# EAGLE library part OSTCXBC1C1S (library LED)
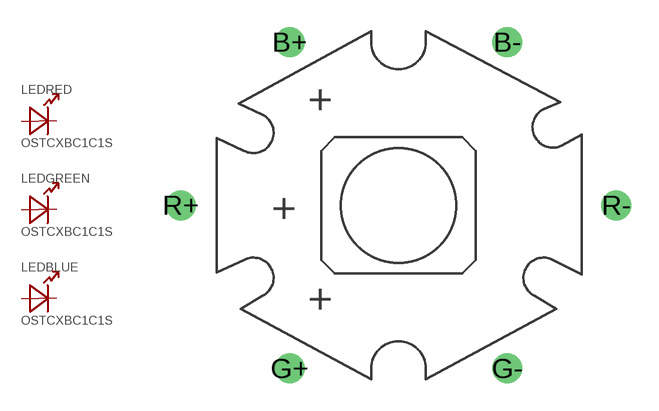
[diagram p0: symbol with the pads of OSTCXBC1C1S_WITH_HEATSINK; footprint OSTCXBC1C1S_WITH_HEATSINK]

Designator prefix LED; gates RED=LED GREEN=LED BLUE=LED

## OSTCXBC1C1S  [OSTCXBC1C1S_WITH_HEATSINK]
B+  BLUE:A  pas
B-  BLUE:C  pas
G+  GREEN:A  pas
G-  GREEN:C  pas
R+  RED:A  pas
R-  RED:C  pas

## Footprint OSTCXBC1C1S_WITH_HEATSINK (pad centres in mm)
OSTCXBC1C1S is a 3[W] 3 color LED. Red, Green, Blue. バランスがおかしい。 -- follow data is from Akituki -------------------------------- http://akizukidenshi.com/catalog/g/gI-03745/ Datasheet <http://akizukidenshi.com/download/OSTCXBC1C1S.pdf>
drill 1.1: B+ -6,9; B- 6,9; G+ -6,-9; G- 6,-9; R+ -12,0; R- 12,0